# EAGLE library part LTC3122-MSOP (library BB8)
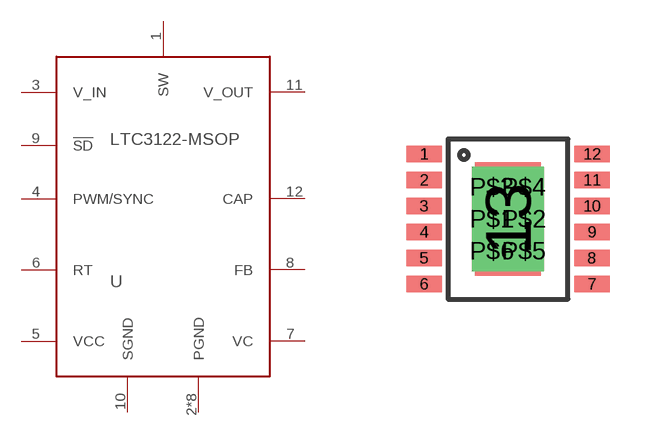
[diagram p15: symbol with the pads of MSOP-12_GND; footprint MSOP-12_GND]

Designator prefix U

## LTC3122-MSOP  [MSOP-12_GND]
1  SW
2  PGND
3  V_IN
4  PWM/SYNC
5  VCC
6  RT
7  VC
8  FB
9  !SD
10  SGND
11  V_OUT
12  CAP
13  PGND
P$1  PGND
P$2  PGND
P$3  PGND
P$4  PGND
P$5  PGND
P$6  PGND

## Footprint MSOP-12_GND (pad centres in mm)
smd 0.889 x 0.42: 1 -2.1,1.625; 2 -2.1,0.975; 3 -2.1,0.325; 4 -2.1,-0.325; 5 -2.1,-0.975; 6 -2.1,-1.625; 7 2.1,-1.625; 8 2.1,-0.975; 9 2.1,-0.325; 10 2.1,0.325; 11 2.1,0.975; 12 2.1,1.625
smd 1.651 x 2.845: 13 0,0
drill 0.5 pad 0.8 square: P$1 -0.4,0; P$2 0.4,0; P$3 -0.4,0.8; P$4 0.4,0.8; P$5 0.4,-0.8; P$6 -0.4,-0.8